# EAGLE library part 93*46B (library project)
1K Microwire Compatible Serial EEPROM 16 bit wide Source: http://ww1.microchip.com/downloads/en/DeviceDoc/21749H.pdf
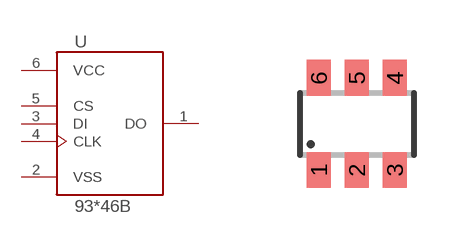
[diagram p2: symbol with the pads of SOT23-6; footprint SOT23-6]

Designator prefix U

## 93AA46BOT, 93C46BOT, 93LC46BOT  [SOT23-6]
1  DO  out
2  VSS  pwr
3  DI  in
4  CLK  in
5  CS  in
6  VCC  pwr

## Footprint SOT23-6 (pad centres in mm)
Small Outline Transistor 6 lead
smd 0.6 x 0.9: 1 -0.95,-1.15; 2 0,-1.15; 3 0.95,-1.15; 4 0.95,1.15; 5 0,1.15; 6 -0.95,1.15